# Altium schematic symbol library OP.SchLib: 1 symbol
Pins are listed as number, name and electrical type; pins without a type are passive.

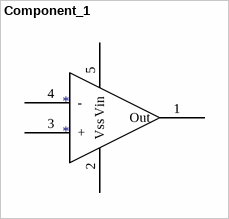
[diagram p0: symbol Component_1]

## Component_1
designator *
footprint SOT-23-5
pins: 1 Out, 2 Vss, 3 +, 4 -, 5 Vin